# EAGLE library part B15B-PH-K (library con-jst-ph)
HEADER
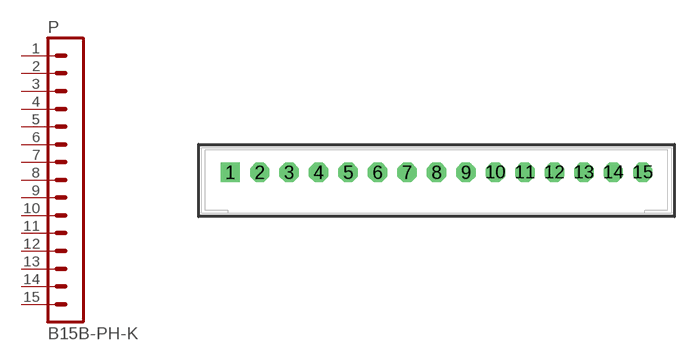
[diagram p9: symbol with the pads of B15B-PH-K; footprint B15B-PH-K]

Designator prefix P

## B15B-PH-K  [B15B-PH-K]
1  1  pas
2  2  pas
3  3  pas
4  4  pas
5  5  pas
6  6  pas
7  7  pas
8  8  pas
9  9  pas
10  10  pas
11  11  pas
12  12  pas
13  13  pas
14  14  pas
15  15  pas

## Footprint B15B-PH-K (pad centres in mm)
HEADER
drill 0.813 square: 1 -14,0
drill 0.813 octagon: 2 -12,0; 3 -10,0; 4 -8,0; 5 -6,0; 6 -4,0; 7 -2,0; 8 0,0; 9 2,0; 10 4,0; 11 6,0; 12 8,0; 13 10,0; 14 12,0; 15 14,0